# Altium footprint library SOT363_N.PcbLib: 1 footprints
Each footprint in its own frame and in the unit in brackets; x right, y up, seen from the top. Pads: shape width x height; smd on the part's side, far side on the other; paste and mask are expansions set on the pad; w line width, h text height; cw(c..) or ccw(c..) is an arc to the next point about the centre after c.
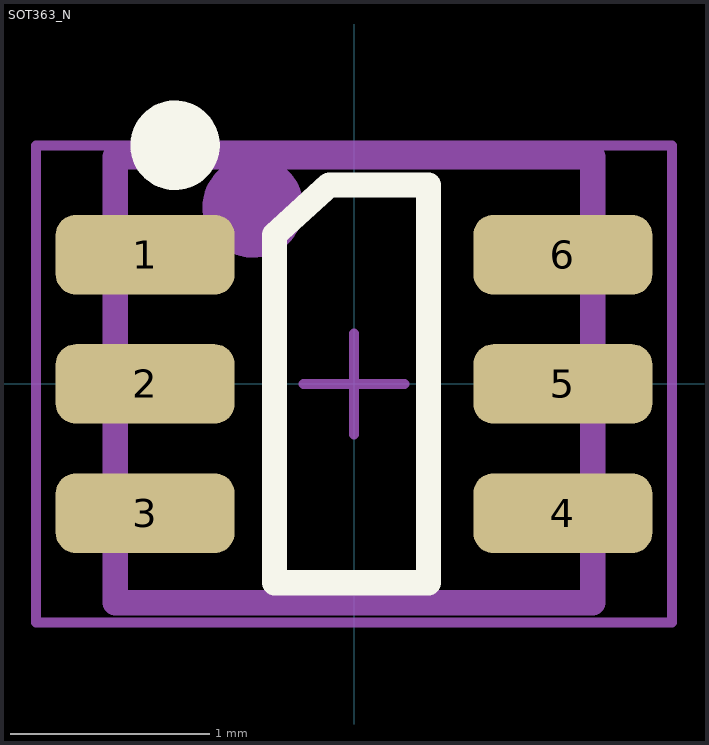
[diagram p0: the footprint, top view; thin cyan lines are the x and y axes]

## SOT363_N [mm]
pads (6):
  rrect50% 0.9x0.4 smd mask+0.05: 1(-1.05,0.65) 2(-1.05,0) 3(-1.05,-0.65) 4(1.05,-0.65) 5(1.05,0) 6(1.05,0.65)
Top Overlay:
  circle w0.25: c-0.9,1.2 r0.1
  lines w0.127: -0.4,-1 0.375,-1 0.375,1 -0.125,1 -0.4,0.75 -0.4,-1
Top Assembly:
  circle w0.254: c-0.508,0.889 r0.127
  lines w0.127: -1.2,-1.1 1.2,-1.1 1.2,1.143 -1.2,1.143 -1.2,-1.1
Top Courtyard:
  lines w0.05: -0.254,0 0.254,0 ; 0,-0.254 0,0.254 ; -1.6,-1.2 1.6,-1.2 1.6,1.2 -1.6,1.2 -1.6,-1.2
3D body "User Library-SOT363-2.step": height 1.1, standoff 0, extent -1.2,-1.1 1.2,1.1